# EAGLE library part SINGLE_MOTOR_DRIVER (library pololu motor driver)
Single Motor Driver (MC33926)
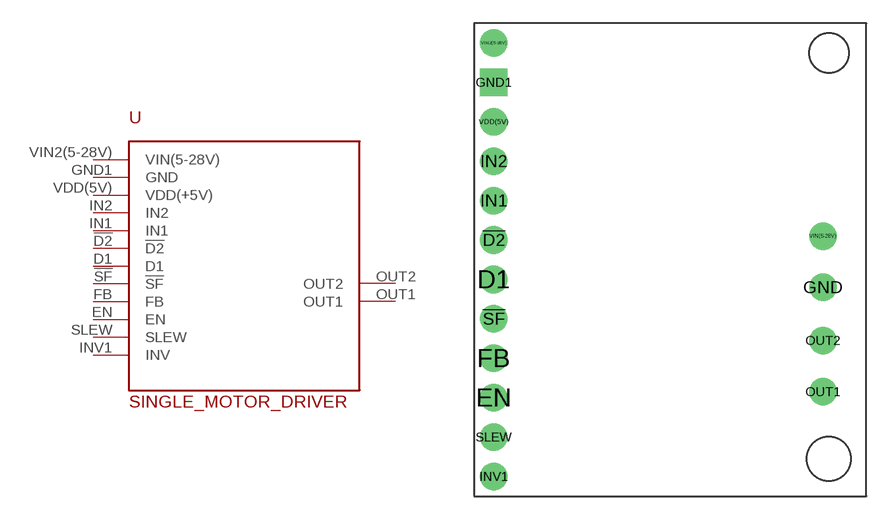
[diagram p2: symbol with the pads of MOTOR_DRIVER_MC33926_FOOTPRINT_; footprint MOTOR_DRIVER_MC33926_FOOTPRINT_]

Designator prefix -

## SINGLE_MOTOR_DRIVER  [MOTOR_DRIVER_MC33926_FOOTPRINT_]
!D2  !D2
!SF  !SF
D1  D1
EN  EN
FB  FB
GND1  GND
IN1  IN1
IN2  IN2
INV1  INV
OUT1  OUT1
OUT2  OUT2
SLEW  SLEW
VDD(5V)  VDD(+5V)
VIN2(5-28V)  VIN(5-28V)

## Footprint MOTOR_DRIVER_MC33926_FOOTPRINT_ (pad centres in mm)
MC33926 Motor Driver Carrier Footprint
drill 0.9 pad 1.778: !D2 -3.81,0; !SF -3.81,-5.08; D1 -3.81,-2.54; EN -3.81,-10.16; FB -3.81,-7.62; GND 17.399,-3.048; IN1 -3.81,2.54; IN2 -3.81,5.08; INV1 -3.81,-15.24; OUT1 17.399,-9.779; OUT2 17.399,-6.477; SLEW -3.81,-12.7; VDD(5V) -3.81,7.62; VIN2(5-28V) -3.81,12.7; VIN(5-28V) 17.399,0.254
drill 0.9 pad 1.778 square: GND1 -3.81,10.16